# EAGLE library part PRECHARGER_BREAKOUT (library HyTechDevices)
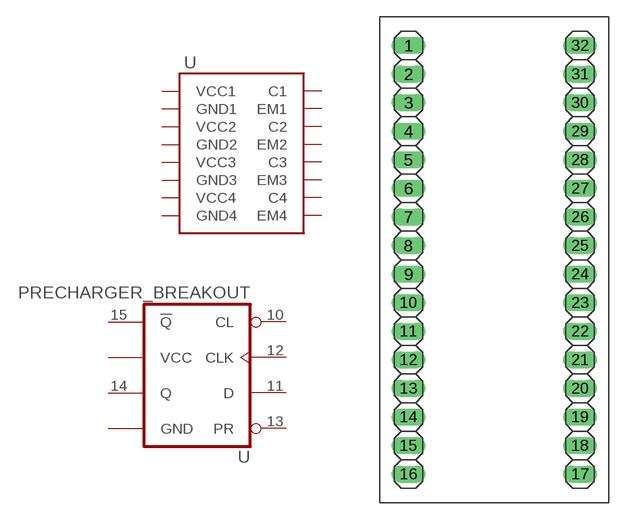
[diagram p82: symbol with the pads of PRECHARGER_BREAKOUT; footprint PRECHARGER_BREAKOUT]

Designator prefix -

## PRECHARGER_BREAKOUT  [PRECHARGER_BREAKOUT]
1  VCC1  pas
2  GND1  pas
3  VCC2  pas
4  GND2  pas
5  VCC3  pas
6  GND3  pas
7  VCC4  pas
8  GND4  pas
10  CL  in
11  D  in
12  CLK  in
13  PR  in
14  Q  out
15  !Q  out
16  GND
23  VCC
25  EM4  pas
26  C4  pas
27  EM3  pas
28  C3  pas
29  EM2  pas
30  C2  pas
31  EM1  pas
32  C1  pas

## Footprint PRECHARGER_BREAKOUT (pad centres in mm)
drill 1.016 long: 1 -7.62,15.24; 2 -7.62,12.7; 3 -7.62,10.16; 4 -7.62,7.62; 5 -7.62,5.08; 6 -7.62,2.54; 7 -7.62,0; 8 -7.62,-2.54; 9 -7.62,-5.08; 10 -7.62,-7.62; 11 -7.62,-10.16; 12 -7.62,-12.7; 13 -7.62,-15.24; 14 -7.62,-17.78; 15 -7.62,-20.32; 16 -7.62,-22.86; 17 7.62,-22.86; 18 7.62,-20.32; 19 7.62,-17.78; 20 7.62,-15.24; 21 7.62,-12.7; 22 7.62,-10.16; 23 7.62,-7.62; 24 7.62,-5.08; 25 7.62,-2.54; 26 7.62,0; 27 7.62,2.54; 28 7.62,5.08; 29 7.62,7.62; 30 7.62,10.16; 31 7.62,12.7; 32 7.62,15.24